# Altium footprint library Omron.PcbLib: 1 footprints
Each footprint in its own frame and in the unit in brackets; x right, y up, seen from the top. Pads: shape width x height; smd on the part's side, far side on the other; paste and mask are expansions set on the pad; w line width, h text height; cw(c..) or ccw(c..) is an arc to the next point about the centre after c.
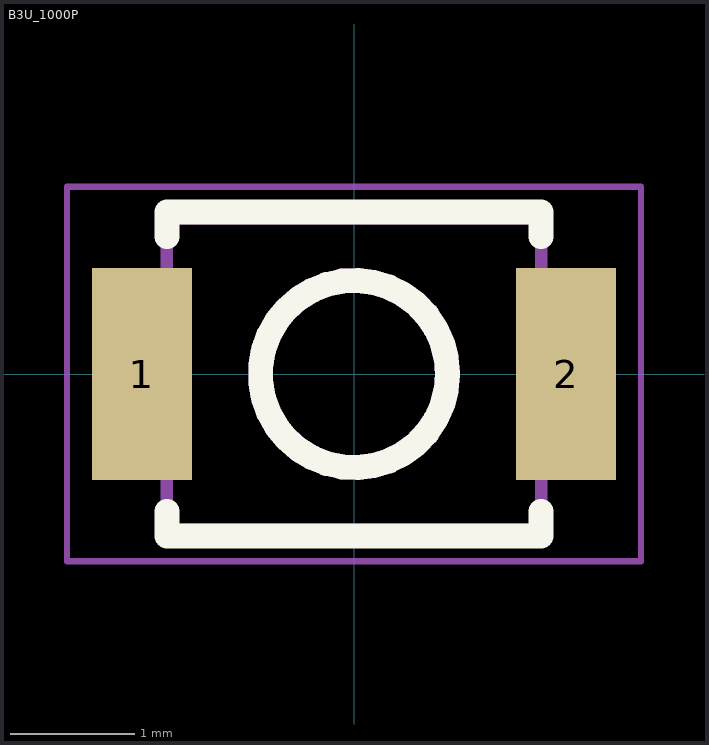
[diagram p0: the footprint, top view; thin cyan lines are the x and y axes]

## B3U_1000P [mm]
pads (2):
  rect 0.8x1.7 smd: 1(-1.7,0) 2(1.7,0)
Top Overlay:
  circle w0.2: c0,0 r0.75
  lines w0.2: -1.5,-1.1 -1.5,-1.3 1.5,-1.3 1.5,-1.1 ; -1.5,1.1 -1.5,1.3 1.5,1.3 1.5,1.1
Mechanical 13:
  circle w0.2: c0,0 r0.75
  rectangle: -2,-0.7 -1.5,0.7
  region: 2,0.7 1.5,0.7 1.5,-0.7 2,-0.7
  lines w0.1: -1.5,-1.25 1.5,-1.25 1.5,1.25 -1.5,1.25 -1.5,-1.25
Mechanical 15:
  lines w0.05: -2.3,-1.5 2.3,-1.5 2.3,1.5 -2.3,1.5 -2.3,-1.5
  text ".Designator" at -2.2,-0.2 h1
3D body "Tactile Switch SPST-NO Top Actuated Surface Mount.stp": height 1.6, standoff 0, extent -2,-1.25 2,1.25